# EAGLE library part LTV827S-TA1 (library ruark2)
Optoisolator Transistor Output 5000Vrms 2 Channel 8-SMD
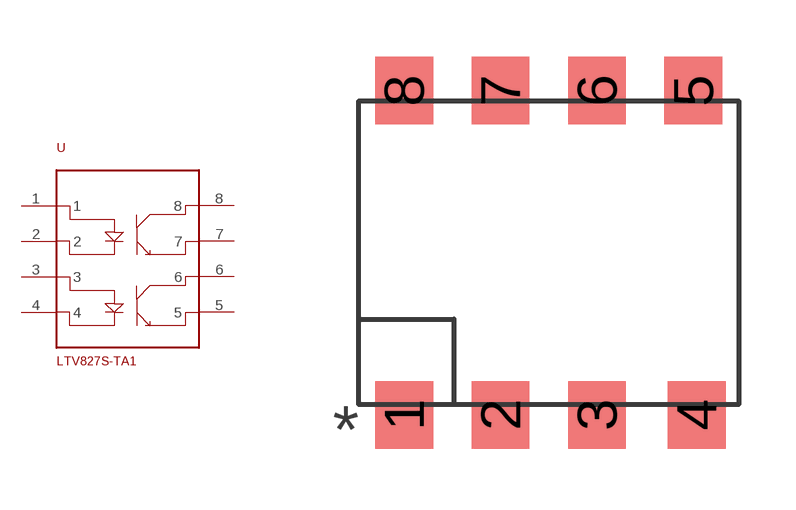
[diagram p7: symbol with the pads of 8SMD; footprint 8SMD]

Designator prefix U

## LTV827S-TA1 (PARTNO: 160-2040-1-ND)  [8SMD]
1  1
2  2
3  3
4  4
5  5
6  6
7  7
8  8

## Footprint 8SMD (pad centres in mm)
smd 1.524 x 1.778: 1 -3.81,-4.27; 2 -1.27,-4.27; 3 1.27,-4.27; 4 3.9,-4.27; 5 3.81,4.27; 6 1.27,4.27; 7 -1.27,4.27; 8 -3.81,4.27